# Altium footprint library ASM2464PD.PcbLib: 48 footprints (part 3 of 3)
Each footprint in its own frame and in the unit in brackets; x right, y up, seen from the top. Pads: shape width x height; smd on the part's side, far side on the other; paste and mask are expansions set on the pad; w line width, h text height; cw(c..) or ccw(c..) is an arc to the next point about the centre after c.
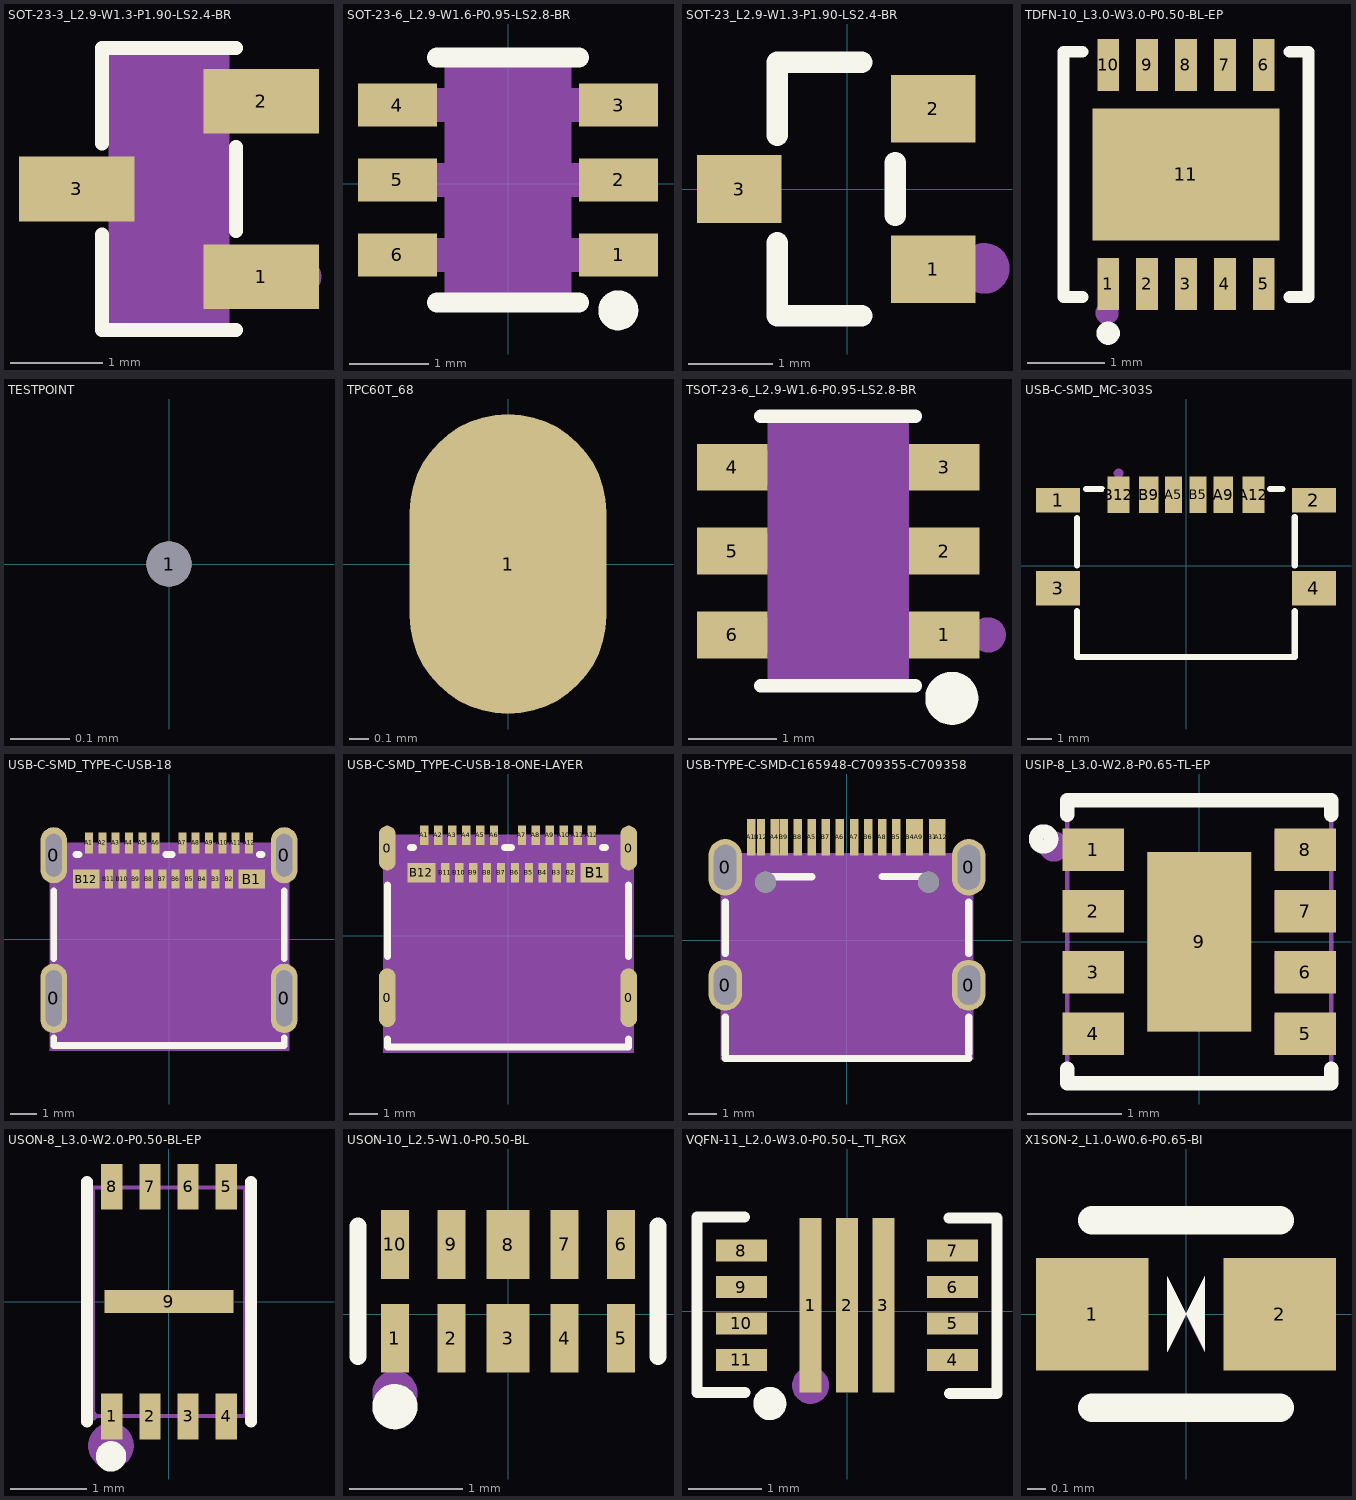
[diagram p2: the footprints below, top view; thin cyan lines are the x and y axes]

## SOT-23-3_L2.9-W1.3-P1.90-LS2.4-BR [mm]
pads (3):
  rect 1.25x0.7 smd: 1(431.596,-422.514) 2(431.596,-420.614) 3(429.597,-421.564)
Top Overlay:
  lines w0.152: 429.87,-422.058 429.87,-423.09 431.323,-423.09 ; 429.87,-421.069 429.87,-420.038 431.323,-420.038 ; 431.323,-422.019 431.323,-421.108
Mechanical 4:
  region: 429.946,-423.014 429.946,-420.114 431.247,-420.114 431.247,-423.014
Mechanical 5:
  region: 429.397,-421.779 429.397,-421.349 429.697,-421.349 429.697,-421.779
  pour cut-out: 429.686,-421.779 429.686,-421.349 429.956,-421.349 429.956,-421.779
  region: 431.497,-422.729 431.497,-422.299 431.796,-422.299 431.796,-422.729
  pour cut-out: 431.237,-422.729 431.237,-422.299 431.507,-422.299 431.507,-422.729
  region: 431.497,-420.829 431.497,-420.399 431.796,-420.399 431.796,-420.829
  pour cut-out: 431.237,-420.829 431.237,-420.399 431.507,-420.399 431.507,-420.829
Mechanical 15:
  circle w0.2: c432.047,-422.514 r0.1
3D body "SOT-23-3L_AOS.step": height 1.25, standoff 0, extent 429.098,-423.113 432.096,-420.015

## SOT-23-6_L2.9-W1.6-P0.95-LS2.8-BR [mm]
pads (6):
  rect 1x0.55 smd: 1(1.4,-0.899) 2(1.4,0.051) 3(1.4,1.001) 4(-1.4,1.001) 5(-1.4,0.051) 6(-1.4,-0.899)
Top Overlay:
  circle w0.254: c1.397,-1.6 r0.127
  lines w0.254: -0.9,-1.5 0.9,-1.5 ; -0.9,1.6 0.9,1.6
Mechanical 4:
  region: -0.8,-1.4 -0.8,1.5 0.8,1.5 0.8,-1.4
Mechanical 5:
  pour cut-out: 0.935,1.216 0.935,0.786 0.79,0.786 0.79,1.216
  pour cut-out: 0.935,0.266 0.935,-0.164 0.79,-0.164 0.79,0.266
  pour cut-out: 0.935,-0.684 0.935,-1.114 0.79,-1.114 0.79,-0.684
  pour cut-out: -0.935,-1.114 -0.935,-0.684 -0.79,-0.684 -0.79,-1.114
  pour cut-out: -0.935,-0.164 -0.935,0.266 -0.79,0.266 -0.79,-0.164
  region: 0.925,-1.115 0.925,-0.685 1.4,-0.685 1.4,-1.115
  region: 0.925,-0.165 0.925,0.265 1.4,0.265 1.4,-0.165
  region: 0.925,0.785 0.925,1.215 1.4,1.215 1.4,0.785
  pour cut-out: -0.935,0.785 -0.935,1.215 -0.79,1.215 -0.79,0.785
  region: -0.925,0.785 -0.925,1.215 -1.4,1.215 -1.4,0.785
  region: -0.925,-0.165 -0.925,0.265 -1.4,0.265 -1.4,-0.165
  region: -0.925,-1.115 -0.925,-0.685 -1.4,-0.685 -1.4,-1.115
Mechanical 15:
  circle w0.2: c1.4,-0.899 r0.1

## SOT-23_L2.9-W1.3-P1.90-LS2.4-BR [mm]
pads (3):
  rect 1x0.8 smd: 1(1.024,-0.95) 2(1.024,0.95) 3(-1.276,0)
Top Overlay:
  lines w0.254: -0.826,-0.636 -0.826,-1.5 0.174,-1.5 ; -0.826,0.636 -0.826,1.5 0.174,1.5 ; 0.574,-0.314 0.574,0.314
Mechanical 15:
  circle w0.3: c1.626,-0.94 r0.15
3D body "SOT-23-3L_AOS.step": height 1.25, standoff 0, extent -1.625,-1.549 1.373,1.549

## TDFN-10_L3.0-W3.0-P0.50-BL-EP [mm]
pads (11):
  rect 0.28x0.665 smd: 1(458.156,-414.363) 2(458.656,-414.363) 3(459.156,-414.363) 4(459.656,-414.363) 5(460.156,-414.363) 6(460.156,-411.548) 7(459.656,-411.548) 8(459.156,-411.548) 9(458.656,-411.548) 10(458.156,-411.548)
  rect 2.4x1.7 smd: 11(459.156,-412.955)
Top Overlay:
  circle w0.15: c458.156,-414.996 r0.075
  lines w0.152: 457.825,-414.532 457.58,-414.532 457.58,-411.379 457.825,-411.379 ; 460.486,-414.532 460.732,-414.532 460.732,-411.379 460.486,-411.379
Mechanical 15:
  circle w0.15: c458.14,-414.733 r0.075
3D body "SON50P300X80_HS-11N.step": height 0.8, standoff 0, extent 457.606,-414.555 460.706,-411.355

## TESTPOINT [mil]
pads (1):
  round 3 hole 3 paste-99999 mask+4: 1(0,0)

## TPC60T_68 [mm] "TPC60T_68"
pads (1):
  oval 1x1.524 smd: 1(0,0)
Mechanical 93:
  text "1" at -0.254,0 h0.64
Mechanical 96:
  text ".Designator" at 3.463,0.133 h2.03

## TSOT-23-6_L2.9-W1.6-P0.95-LS2.8-BR [mm]
pads (6):
  rect 0.8x0.532 smd: 1(458.337,-343.53) 2(458.337,-342.58) 3(458.337,-341.63) 4(455.937,-341.63) 5(455.937,-342.58) 6(455.937,-343.53)
Top Overlay:
  circle w0.3: c458.424,-344.249 r0.15
  lines w0.152: 456.261,-344.106 458.013,-344.106 ; 456.261,-341.054 458.013,-341.054
Mechanical 4:
  region: 456.337,-344.03 456.337,-341.13 457.937,-341.13 457.937,-344.03
Mechanical 5:
  pour cut-out: 456.177,-343.73 456.177,-343.33 456.347,-343.33 456.347,-343.73
  region: 456.187,-343.73 456.187,-343.33 455.737,-343.33 455.737,-343.73
  pour cut-out: 456.177,-342.78 456.177,-342.38 456.347,-342.38 456.347,-342.78
  region: 456.187,-342.78 456.187,-342.38 455.737,-342.38 455.737,-342.78
  pour cut-out: 456.177,-341.83 456.177,-341.43 456.347,-341.43 456.347,-341.83
  region: 456.187,-341.83 456.187,-341.43 455.737,-341.43 455.737,-341.83
  pour cut-out: 457.927,-341.83 457.927,-341.43 458.097,-341.43 458.097,-341.83
  region: 458.087,-341.83 458.087,-341.43 458.537,-341.43 458.537,-341.83
  pour cut-out: 457.927,-342.78 457.927,-342.38 458.097,-342.38 458.097,-342.78
  region: 458.087,-342.78 458.087,-342.38 458.537,-342.38 458.537,-342.78
  pour cut-out: 457.927,-343.73 457.927,-343.33 458.097,-343.33 458.097,-343.73
  region: 458.087,-343.73 458.087,-343.33 458.537,-343.33 458.537,-343.73
Mechanical 15:
  circle w0.2: c458.837,-343.53 r0.1

## USB-C-SMD_MC-303S [mm]
pads (10):
  rect 1.8x1 smd: 1(-5.218,2.669) 2(5.218,2.669)
  rect 1.8x1.4 smd: 3(-5.218,-0.932) 4(5.218,-0.932)
  rect 0.7x1.5 smd: A5(-0.505,2.891) B5(0.495,2.892)
  rect 0.8x1.5 smd: A9(1.515,2.891) B9(-1.525,2.892)
  rect 0.9x1.5 smd: A12(2.745,2.892) B12(-2.755,2.892)
Top Overlay:
  lines w0.254: -4.45,-1.863 -4.45,-3.732 4.44,-3.732 4.44,-1.863 ; -4.45,0 -4.45,1.937 ; -4.069,3.126 -3.436,3.126 ; 3.426,3.126 3.932,3.126 ; 4.44,0 4.44,1.983
Mechanical 15:
  circle w0.2: c-2.75,3.758 r0.1
3D body "U262-161N-4BS1735.stp": height 3.31, standoff -0.55, extent -5.85,-4 5.85,3.694

## USB-C-SMD_TYPE-C-USB-18 [mm]
pads (28):
  oval 1x2.599 hole 0.6 slot 2.1 at 90 deg: 0(-4.32,-2.222) 0(4.32,-2.222)
  oval 1x2.099 hole 0.6 slot 1.6 at 90 deg: 0(-4.32,3.138) 0(4.32,3.138)
  rect 0.3x0.8 smd: A1(-3,3.598) A2(-2.5,3.598) A3(-2,3.598) A4(-1.5,3.598) A5(-1,3.598) A6(-0.5,3.598) A7(0.5,3.598) A8(1,3.598) A9(1.5,3.598) A10(2,3.598) A11(2.5,3.598) A12(3,3.598)
  rect 1x0.7 smd: B1(3.1,2.248) B12(-3.1,2.248)
  rect 0.3x0.7 smd: B2(2.25,2.248) B3(1.75,2.248) B4(1.25,2.248) B5(0.75,2.248) B6(0.25,2.248) B7(-0.25,2.248) B8(-0.75,2.248) B9(-1.25,2.248) B10(-1.75,2.248) B11(-2.25,2.248)
Top Overlay:
  lines w0.254: -4.32,-3.703 -4.32,-3.992 4.32,-3.992 4.32,-3.703 ; -4.32,-0.741 -4.32,1.806 ; -3.489,3.163 -3.376,3.163 ; -0.122,3.163 0.126,3.163 ; 3.378,3.163 3.489,3.163 ; 4.32,-0.741 4.32,1.806
Top Paste:
  drawing of 28 lines, arcs and shapes, not listed
Mechanical 4:
  region: 4.5,-4.187 4.5,3.593 4.48,3.613 -4.45,3.613 -4.46,3.603 -4.46,-4.167 -4.48,-4.187
Mechanical 5:
  region: 4.17,-1.472 4.47,-1.472 4.47,-2.972 4.17,-2.972
  region: -4.47,-1.472 -4.17,-1.472 -4.17,-2.972 -4.47,-2.972
  region: -4.47,3.638 -4.17,3.638 -4.17,2.638 -4.47,2.638
  region: 4.17,3.638 4.47,3.638 4.47,2.638 4.17,2.638
  region: -3.5,2.528 -2.7,2.528 -2.7,1.968 -3.5,1.968
  region: 2.7,2.528 3.5,2.528 3.5,1.968 2.7,1.968
  region: -2.375,2.498 -2.125,2.498 -2.125,1.998 -2.375,1.998
  region: -1.875,2.498 -1.625,2.498 -1.625,1.998 -1.875,1.998
  region: -1.375,2.498 -1.125,2.498 -1.125,1.998 -1.375,1.998
  region: -0.875,2.498 -0.625,2.498 -0.625,1.998 -0.875,1.998
  region: -0.375,2.498 -0.125,2.498 -0.125,1.998 -0.375,1.998
  region: 0.125,2.498 0.375,2.498 0.375,1.998 0.125,1.998
  region: 0.625,2.498 0.875,2.498 0.875,1.998 0.625,1.998
  region: 1.125,2.498 1.375,2.498 1.375,1.998 1.125,1.998
  region: 1.625,2.498 1.875,2.498 1.875,1.998 1.625,1.998
  region: 2.125,2.498 2.375,2.498 2.375,1.998 2.125,1.998
  region: -3.123,3.713 -2.873,3.713 -2.873,3.213 -3.123,3.213
  region: -2.623,3.713 -2.373,3.713 -2.373,3.213 -2.623,3.213
  region: -2.123,3.713 -1.873,3.713 -1.873,3.213 -2.123,3.213
  region: -1.621,3.713 -1.371,3.713 -1.371,3.213 -1.621,3.213
  region: -1.121,3.713 -0.871,3.713 -0.871,3.213 -1.121,3.213
  region: -0.625,3.713 -0.375,3.713 -0.375,3.213 -0.625,3.213
  region: 0.379,3.713 0.629,3.713 0.629,3.213 0.379,3.213
  region: 0.875,3.713 1.125,3.713 1.125,3.213 0.875,3.213
  region: 1.375,3.713 1.625,3.713 1.625,3.213 1.375,3.213
  region: 1.875,3.713 2.125,3.713 2.125,3.213 1.875,3.213
  region: 2.375,3.713 2.625,3.713 2.625,3.213 2.375,3.213
  region: 2.88,3.713 3.13,3.713 3.13,3.213 2.88,3.213
3D body "1054500101--3DModel-STEP-1.STEP": height 3.2, standoff -0.9, extent -4.47,-3.905 4.47,3.995

## USB-C-SMD_TYPE-C-USB-18-ONE-LAYER [mm]
pads (28):
  oval 0.6x2.1 smd: 0(-4.32,-2.222) 0(4.32,-2.222)
  oval 0.6x1.6 smd: 0(-4.32,3.138) 0(4.32,3.138)
  rect 0.3x0.7 smd: A1(-3,3.598) A2(-2.5,3.598) A3(-2,3.598) A4(-1.5,3.598) A5(-1,3.598) A6(-0.5,3.598) A7(0.5,3.598) A8(1,3.598) A9(1.5,3.598) A10(2,3.598) A11(2.5,3.598) A12(3,3.598) B2(2.25,2.248) B3(1.75,2.248) B4(1.25,2.248) B5(0.75,2.248) B6(0.25,2.248) B7(-0.25,2.248) B8(-0.75,2.248) B9(-1.25,2.248) B10(-1.75,2.248) B11(-2.25,2.248)
  rect 1x0.7 smd: B1(3.1,2.248) B12(-3.1,2.248)
Top Overlay:
  lines w0.254: -4.32,-3.703 -4.32,-3.992 4.32,-3.992 4.32,-3.703 ; -4.32,-0.741 -4.32,1.806 ; -3.489,3.163 -3.376,3.163 ; -0.122,3.163 0.126,3.163 ; 3.378,3.163 3.489,3.163 ; 4.32,-0.741 4.32,1.806
Mechanical 4:
  region: 4.5,-4.187 4.5,3.593 4.48,3.613 -4.45,3.613 -4.46,3.603 -4.46,-4.167 -4.48,-4.187
Mechanical 5:
  region: 2.88,3.713 3.13,3.713 3.13,3.213 2.88,3.213
  region: 2.375,3.713 2.625,3.713 2.625,3.213 2.375,3.213
  region: 1.875,3.713 2.125,3.713 2.125,3.213 1.875,3.213
  region: 1.375,3.713 1.625,3.713 1.625,3.213 1.375,3.213
  region: 0.875,3.713 1.125,3.713 1.125,3.213 0.875,3.213
  region: 0.379,3.713 0.629,3.713 0.629,3.213 0.379,3.213
  region: -0.625,3.713 -0.375,3.713 -0.375,3.213 -0.625,3.213
  region: -1.121,3.713 -0.871,3.713 -0.871,3.213 -1.121,3.213
  region: -1.621,3.713 -1.371,3.713 -1.371,3.213 -1.621,3.213
  region: -2.123,3.713 -1.873,3.713 -1.873,3.213 -2.123,3.213
  region: -2.623,3.713 -2.373,3.713 -2.373,3.213 -2.623,3.213
  region: -3.123,3.713 -2.873,3.713 -2.873,3.213 -3.123,3.213
  region: 2.125,2.498 2.375,2.498 2.375,1.998 2.125,1.998
  region: 1.625,2.498 1.875,2.498 1.875,1.998 1.625,1.998
  region: 1.125,2.498 1.375,2.498 1.375,1.998 1.125,1.998
  region: 0.625,2.498 0.875,2.498 0.875,1.998 0.625,1.998
  region: 0.125,2.498 0.375,2.498 0.375,1.998 0.125,1.998
  region: -0.375,2.498 -0.125,2.498 -0.125,1.998 -0.375,1.998
  region: -0.875,2.498 -0.625,2.498 -0.625,1.998 -0.875,1.998
  region: -1.375,2.498 -1.125,2.498 -1.125,1.998 -1.375,1.998
  region: -1.875,2.498 -1.625,2.498 -1.625,1.998 -1.875,1.998
  region: -2.375,2.498 -2.125,2.498 -2.125,1.998 -2.375,1.998
  region: 2.7,2.528 3.5,2.528 3.5,1.968 2.7,1.968
  region: -3.5,2.528 -2.7,2.528 -2.7,1.968 -3.5,1.968
  region: 4.17,3.638 4.47,3.638 4.47,2.638 4.17,2.638
  region: -4.47,3.638 -4.17,3.638 -4.17,2.638 -4.47,2.638
  region: -4.47,-1.472 -4.17,-1.472 -4.17,-2.972 -4.47,-2.972
  region: 4.17,-1.472 4.47,-1.472 4.47,-2.972 4.17,-2.972
3D body "1054500101--3DModel-STEP-1.STEP": height 3.2, standoff -0.9, extent -4.47,-3.905 4.47,3.995

## USB-TYPE-C-SMD-C165948-C709355-C709358 [mm] "USB-TYPE-C-SMD-C165948-C709355-C709358"
pads (22):
  oval 1.2x1.8 hole 0.8 slot 1.4 at 90 deg: 0(-4.32,-1.584) 0(4.32,-1.584)
  oval 1.2x2 hole 0.8 slot 1.6 at 90 deg: 0(-4.32,2.595) 0(4.32,2.595)
  rect 0.3x1.3 smd: A1(-3.4,3.664) A4(-2.56,3.664) A5(-1.25,3.664) A6(-0.25,3.664) A7(0.25,3.664) A8(1.25,3.664) A9(2.55,3.664) A12(3.35,3.664) B1(3.05,3.664) B4(2.24,3.664) B5(1.75,3.664) B6(0.75,3.664) B7(-0.75,3.664) B8(-1.75,3.664) B9(-2.24,3.664) B12(-3.05,3.664)
  round 0.75 hole 0.75 unplated: ""(-2.89,2.065) ""(2.89,2.065)
Top Overlay:
  lines w0.254: -4.32,-4.187 4.32,-4.187 ; -4.32,-4.051 -4.32,-2.716 ; -4.32,-0.453 -4.32,1.364 ; -3,2.26 -1.25,2.26 ; 1.247,2.263 2.997,2.263 ; 4.32,-4.001 4.32,-2.716 ; 4.32,-0.453 4.32,1.364
Top Paste:
  region: -4.919,2.174 -4.919,2.059 -4.831,1.847 -4.669,1.685 -4.457,1.597 -4.342,1.597 -4.316,1.597 -4.198,1.597 -3.979,1.688 -3.812,1.855 -3.721,2.074 -3.721,2.192 -3.721,2.263 -3.72,3.017 -3.72,3.132 -3.808,3.344 -3.97,3.507 -4.182,3.594 -4.297,3.594 -4.333,3.594 -4.449,3.594 -4.665,3.505 -4.829,3.34 -4.919,3.125 -4.919,3.008 -4.919,2.956
  region: 3.721,2.174 3.721,2.059 3.809,1.847 3.971,1.685 4.183,1.597 4.298,1.597 4.324,1.597 4.442,1.597 4.661,1.688 4.828,1.855 4.919,2.074 4.919,2.192 4.919,2.263 4.92,3.017 4.92,3.132 4.832,3.344 4.67,3.507 4.458,3.594 4.343,3.594 4.308,3.594 4.191,3.594 3.976,3.505 3.811,3.34 3.721,3.125 3.721,3.008 3.721,2.956
  region: -3.72,-1.5 -3.721,-1.501 -3.721,-1.89 -3.721,-2.008 -3.811,-2.226 -3.978,-2.392 -4.195,-2.482 -4.313,-2.482 -4.36,-2.482 -4.471,-2.482 -4.675,-2.398 -4.832,-2.241 -4.916,-2.037 -4.916,-1.926 -4.916,-1.637 -4.919,-1.276 -4.919,-1.159 -4.829,-0.942 -4.663,-0.776 -4.447,-0.687 -4.329,-0.687 -4.295,-0.687 -4.18,-0.687 -3.969,-0.774 -3.807,-0.936 -3.72,-1.147 -3.72,-1.262 -3.72,-1.378
  region: 4.92,-1.5 4.919,-1.501 4.919,-1.89 4.919,-2.008 4.829,-2.226 4.662,-2.392 4.445,-2.482 4.327,-2.482 4.28,-2.482 4.169,-2.482 3.965,-2.398 3.808,-2.241 3.724,-2.037 3.724,-1.926 3.724,-1.637 3.722,-1.276 3.722,-1.159 3.811,-0.942 3.977,-0.776 4.193,-0.687 4.311,-0.687 4.345,-0.687 4.46,-0.687 4.671,-0.774 4.833,-0.936 4.921,-1.147 4.921,-1.262 4.921,-1.378
Mechanical 4:
  region: -4.47,3.09 4.47,3.09 4.47,-4.21 -4.47,-4.21

## USIP-8_L3.0-W2.8-P0.65-TL-EP [mm]
pads (9):
  rect 0.65x0.45 smd: 1(-1.125,0.975) 2(-1.125,0.325) 3(-1.125,-0.325) 4(-1.125,-0.975) 5(1.125,-0.975) 6(1.125,-0.325) 7(1.125,0.325) 8(1.125,0.975)
  rect 1.1x1.9 smd: 9(0,0)
Top Overlay:
  circle w0.15: c-1.65,1.09 r0.081
  lines w0.15: -1.4,-1.347 -1.4,-1.5 1.4,-1.5 1.4,-1.347 ; -1.4,1.347 -1.4,1.5 1.4,1.5 1.4,1.347
Mechanical 6:
  circle w0.16: c-1.54,1.01 r0.08
Mechanical 15:
  region: -1.34,1.5 -1.34,1.524 -1.375,1.559 -1.424,1.559 -1.459,1.524 -1.46,1.5 -1.459,1.475 -1.424,1.441 -1.375,1.441 -1.34,1.476 -1.34,1.5
  region: -0.55,-0.95 -0.55,0.95 0.55,0.95 0.55,-0.95
  region: 0.8,-0.125 1.3,-0.125 1.3,-0.525 0.8,-0.525
  region: 0.8,-0.775 1.3,-0.775 1.3,-1.175 0.8,-1.175
  region: 0.8,1.175 1.3,1.175 1.3,0.775 0.8,0.775
  region: 0.8,0.525 1.3,0.525 1.3,0.125 0.8,0.125
  region: -1.3,-0.775 -0.8,-0.775 -0.8,-1.175 -1.3,-1.175
  region: -1.3,-0.125 -0.8,-0.125 -0.8,-0.525 -1.3,-0.525
  region: -1.3,0.525 -0.8,0.525 -0.8,0.125 -1.3,0.125
  region: -1.3,1.175 -0.8,1.175 -0.8,0.775 -1.3,0.775
  lines w0.051: -1.4,-1.5 1.4,-1.5 1.4,1.5 -1.4,1.5 -1.4,-1.5

## USON-8_L3.0-W2.0-P0.50-BL-EP [mm]
pads (9):
  rect 0.28x0.6 smd: 1(-0.75,-1.507) 2(-0.25,-1.507) 3(0.25,-1.507) 4(0.75,-1.507) 5(0.75,1.507) 6(0.25,1.507) 7(-0.25,1.507) 8(-0.75,1.507)
  rect 1.7x0.3 smd: 9(0,0)
Top Overlay:
  circle w0.2: c-0.762,-2.032 r0.1
  lines w0.152: -1.076,-1.576 -1.076,1.576 ; 1.076,-1.576 1.076,1.576
Mechanical 6:
  circle w0.3: c-0.762,-1.892 r0.15
Mechanical 15:
  region: 0.875,1.233 0.625,1.233 0.625,1.5 0.875,1.5
  region: 0.375,1.233 0.125,1.233 0.125,1.5 0.375,1.5
  region: -0.125,1.233 -0.375,1.233 -0.375,1.5 -0.125,1.5
  region: -0.625,1.233 -0.875,1.233 -0.875,1.5 -0.625,1.5
  region: -0.875,-1.232 -0.625,-1.232 -0.625,-1.5 -0.875,-1.5
  region: -0.375,-1.232 -0.125,-1.232 -0.125,-1.5 -0.375,-1.5
  region: 0.125,-1.232 0.375,-1.232 0.375,-1.5 0.125,-1.5
  region: 0.625,-1.232 0.875,-1.232 0.875,-1.5 0.625,-1.5
  region: -0.8,0.1 0.8,0.1 0.8,-0.1 -0.8,-0.1
  region: -0.94,-1.5 -0.941,-1.476 -0.976,-1.442 -1.024,-1.442 -1.059,-1.476 -1.06,-1.5 -1.059,-1.524 -1.024,-1.558 -0.976,-1.558 -0.941,-1.524 -0.94,-1.5
  lines w0.051: -1,-1.5 1,-1.5 1,1.5 -1,1.5 -1,-1.5

## USON-10_L2.5-W1.0-P0.50-BL [mm]
pads (10):
  rect 0.25x0.609 smd: 1(-1,-0.214) 2(-0.5,-0.214) 4(0.5,-0.214) 5(1,-0.214) 6(1,0.615) 7(0.5,0.615) 9(-0.5,0.615) 10(-1,0.615)
  rect 0.38x0.609 smd: 3(0,-0.214) 8(0,0.614)
Top Overlay:
  circle w0.2: c-1,-0.819 r0.1
  lines w0.152: -1.326,-0.376 -1.326,0.776 ; 1.326,-0.376 1.326,0.776
Mechanical 15:
  circle w0.2: c-1,-0.7 r0.1
3D body "DQA0010A.stp": height 0.55, standoff 0, extent -1.25,-0.3 1.25,0.7

## VQFN-11_L2.0-W3.0-P0.50-L_TI_RGX [mm]
pads (11):
  rect 0.3x2.4 smd: 1(-0.5,0.083) 2(0,0.083) 3(0.5,0.083)
  rect 0.7x0.3 smd: 4(1.45,-0.668) 5(1.45,-0.167) 6(1.45,0.332) 7(1.45,0.833) 8(-1.45,0.833) 9(-1.45,0.332) 10(-1.45,-0.167) 11(-1.45,-0.668)
Top Overlay:
  circle w0.254: c-1.06,-1.267 r0.1
  lines w0.15: -1.41,1.293 -2.06,1.293 -2.06,1.283 -2.06,-1.117 -1.97,-1.117 -1.4,-1.117 ; 1.4,1.283 1.97,1.283 2.06,1.283 2.06,-1.117 2.06,-1.127 1.41,-1.127
Mechanical 15:
  circle w0.254: c-0.5,-1.018 r0.127
3D body "RGX0011A.stp": height 1, standoff 0, extent -1.5,-0.917 1.5,1.083

## X1SON-2_L1.0-W0.6-P0.65-BI [mm]
pads (2):
  rect 0.6x0.6 smd: 1(-0.5,0) 2(0.5,0)
Top Overlay:
  region: -0.1,0.2 -0.1,-0.2 0,0
  region: 0.101,-0.198 0.101,0.202 0.001,0.002
  lines w0.15: -0.5,-0.5 0.5,-0.5 ; -0.5,0.5 0.5,0.5
Mechanical 15:
  region: -0.1,0.2 -0.1,-0.2 0,0
  region: 0.1,-0.2 0.1,0.2 0,0
3D body "DPY0002A.stp": height 0.45, standoff 0, extent -0.5,-0.3 0.5,0.3